# Altium footprint library CustomComponentsLibrary.PcbLib: 15 footprints
Each footprint in its own frame and in the unit in brackets; x right, y up, seen from the top. Pads: shape width x height; smd on the part's side, far side on the other; paste and mask are expansions set on the pad; w line width, h text height; cw(c..) or ccw(c..) is an arc to the next point about the centre after c.
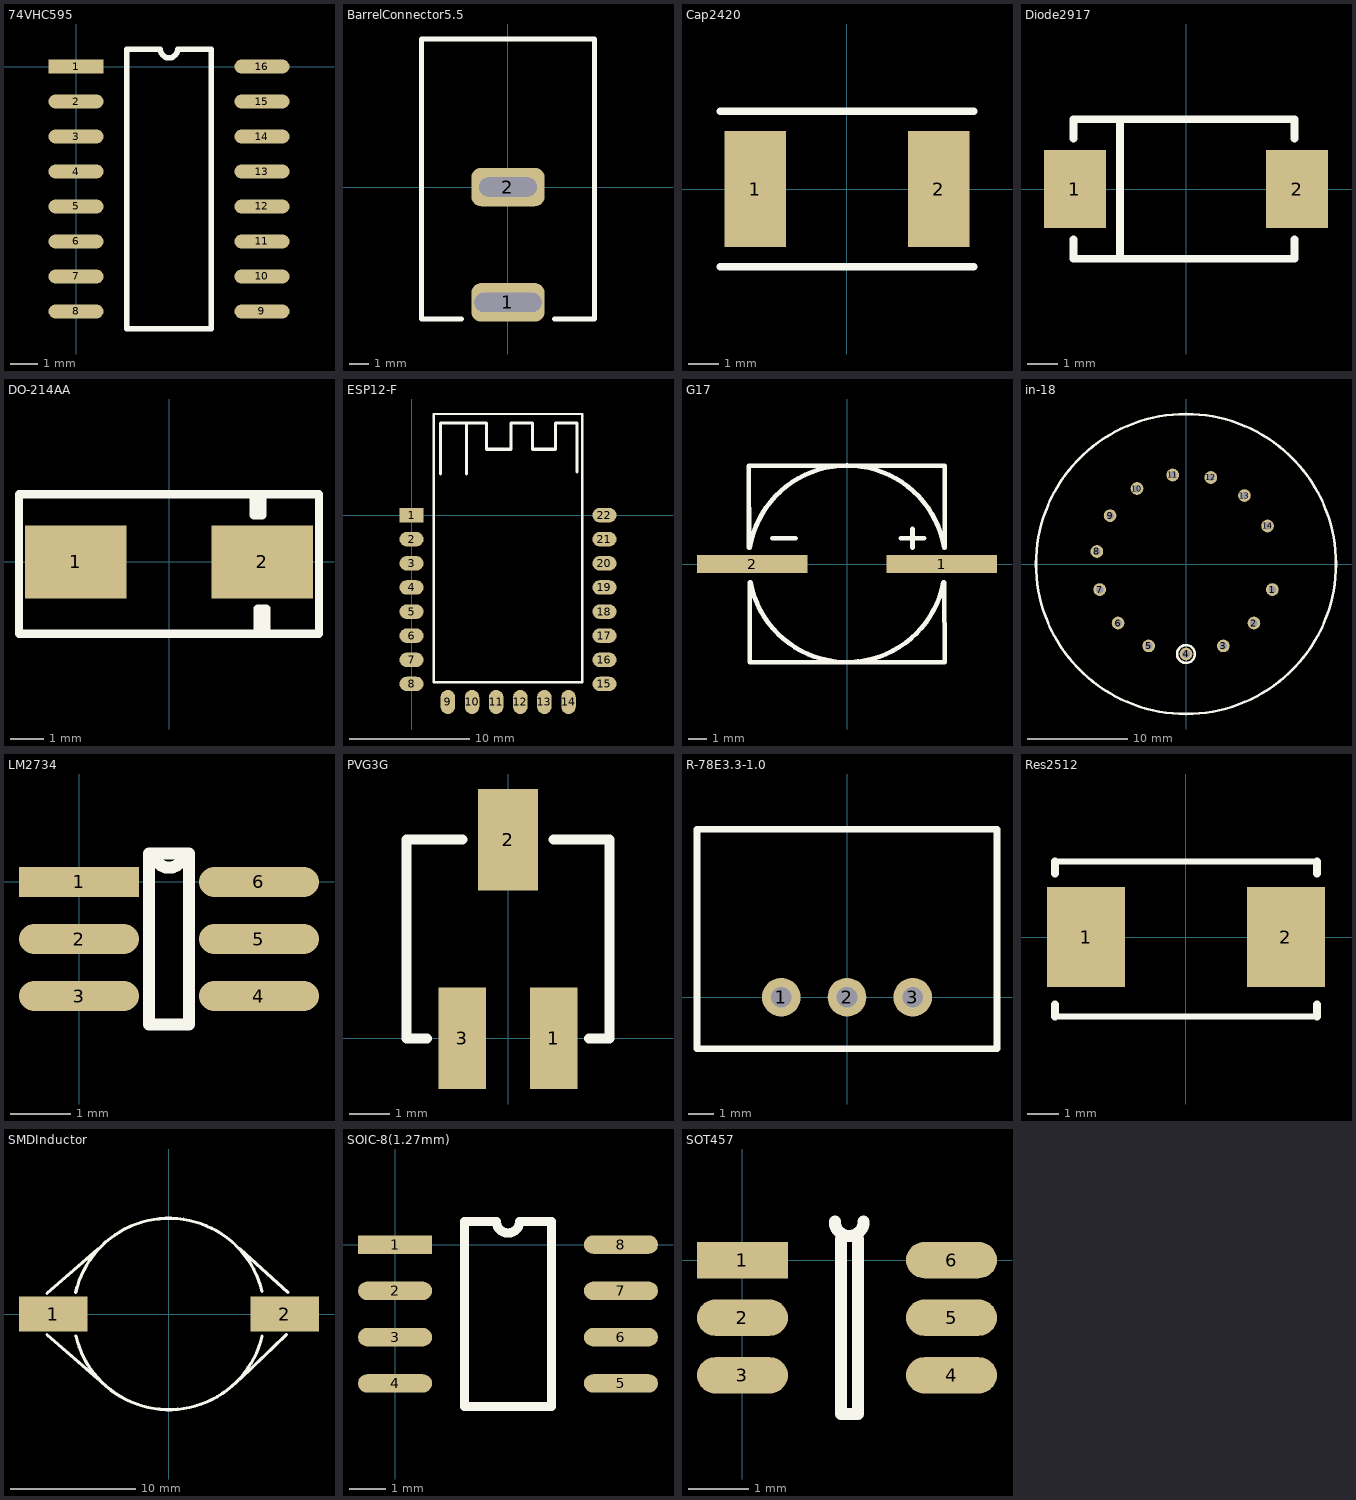
[diagram p0: the footprints below, top view; thin cyan lines are the x and y axes]

## 74VHC595 [mm]
pads (16):
  rect 2x0.5 smd: 1(0,0)
  oval 2x0.5 smd: 2(0,-1.27) 3(0,-2.54) 4(0,-3.81) 5(0,-5.08) 6(0,-6.35) 7(0,-7.62) 8(0,-8.89) 9(6.75,-8.89) 10(6.75,-7.62) 11(6.75,-6.35) 12(6.75,-5.08) 13(6.75,-3.81) 14(6.75,-2.54) 15(6.75,-1.27) 16(6.75,0)
Top Overlay:
  lines w0.2: 1.835,-9.525 1.835,0.635 3.057,0.635 ccw(c3.375,0.635) 3.692,0.635 4.915,0.635 4.915,-9.525 1.835,-9.525

## BarrelConnector5.5 [mm]
pads (2):
  rrect50% 3.81x2 hole 1 slot 3.5 at 0 deg: 1(0,-6)
  rrect50% 3.81x2 hole 1 slot 3 at 0 deg: 2(0,0)
Top Overlay:
  lines w0.254: -2.413,-6.858 -4.5,-6.858 -4.5,7.7 4.5,7.7 4.5,-6.858 2.413,-6.858

## Cap2420 [mm]
pads (2):
  rect 2x3.8 smd: 1(-3,0) 2(3,0)
Top Overlay:
  lines w0.254: -4.14,-2.54 4.14,-2.54 ; -4.14,2.54 4.14,2.54

## Diode2917 [mil]
pads (2):
  rect 80x100 smd: 1(-143.5,0) 2(143.5,0)
Top Overlay:
  lines w10: -145,-65 -145,-90 -85,-90 ; -145,65 -145,90 -85,90 ; 140,-65 140,-90 90,-90 -85,-90 ; 140,65 140,90 90,90 -85,90 ; -85,-90 -85,90

## DO-214AA [mil]
pads (2):
  rect 120x86 smd: 1(-110,0) 2(110,0)
Top Overlay:
  lines w10: 100,80 100,55 110,55 110,80 ; 105,-85 105,-55 115,-55 115,-85 ; -177,-85 -177,0 -177,80 177,80 177,-85 -177,-85

## ESP12-F [mm]
pads (22):
  rect 2x1.2 smd: 1(0,0)
  oval 2x1.2 smd: 2(0,-2) 3(0,-4) 4(0,-6) 5(0,-8) 6(0,-10) 7(0,-12) 8(0,-14) 15(16,-14) 16(16,-12) 17(16,-10) 18(16,-8) 19(16,-6) 20(16,-4) 21(16,-2) 22(16,0)
  oval 1.2x2 smd: 9(3.018,-15.492) 10(5.018,-15.492) 11(7.018,-15.492) 12(9.018,-15.492) 13(11.018,-15.492) 14(13.018,-15.492)
Top Overlay:
  lines w0.2: 10.922,8.382 14.165,8.382 14.165,-13.843 1.835,-13.843 1.835,8.382 4.918,8.382 11.083,8.382
  lines w0.254: 2.413,3.429 2.413,7.62 6.223,7.62 6.223,5.461 8.255,5.461 8.255,7.62 10.033,7.62 10.033,5.461 11.938,5.461 11.938,7.62 13.716,7.62 13.716,3.81 13.716,3.556 ; 4.572,3.429 4.572,7.62

## G17 [mm]
pads (2):
  rect 6x1 smd: 1(5.15,0) 2(-5.15,0)
Top Overlay:
  lines w0.254: -5.322,0.882 -5.334,5.334 0,5.334 5.314,5.334 5.314,0.883 ; -5.29,-1.006 -5.29,-5.271 -5.29,-5.334 0,-5.334 5.314,-5.334 5.291,-1.006 ; -5.28,0.882 cw(c0,0) 5.28,0.883 ; -5.24,-1.006 ccw(c0,0) 5.242,-0.996 ; -4.064,1.397 -2.794,1.397 ; 2.921,1.397 4.191,1.397 ; 3.556,0.889 3.556,1.905

## in-18 [mm]
pads (14):
  round 1.27 hole 0.75: 1(8.629,-2.556) 2(6.792,-5.904) 3(3.732,-8.19) 4(0,-9) 5(-3.732,-8.19) 6(-6.792,-5.904) 7(-8.629,-2.556) 8(-8.912,1.253) 9(-7.591,4.836) 10(-4.902,7.548) 11(-1.33,8.901) 12(2.481,8.651) 13(5.845,6.844) 14(8.157,3.804)
Top Overlay:
  circle w0.254: c0,-9 r0.889
  circle w0.254: c0,0 r15

## LM2734 [mm]
pads (6):
  rect 2x0.5 smd: 1(0,0)
  oval 2x0.5 smd: 2(0,-0.95) 3(0,-1.9) 4(3,-1.9) 5(3,-0.95) 6(3,0)
Top Overlay:
  lines w0.2: 1.165,-2.375 1.835,-2.375 1.835,0.475 1.262,0.475 ccw(c1.5,0.475) 1.737,0.475 1.165,0.475 1.165,-2.375

## PVG3G [mil]
pads (3):
  rect 47x100 smd: 1(45,0) 3(-45,0)
  rect 59x100 smd: 2(0,196)
Top Overlay:
  lines w10: -80,0 -100,0 -100,196 -45,196 ; 45,196 100,196 100,0 80,0

## R-78E3.3-1.0 [mm]
height 10.4
pads (3):
  round 1.5 hole 0.8: 1(-2.54,0) 2(0,0) 3(2.54,0)
Top Overlay:
  lines w0.254: -5.8,-2 5.8,-2 5.8,6.5 -5.8,6.5 -5.8,-2

## Res2512 [mm]
pads (2):
  rect 2.5x3.2 smd: 1(-3.2,0) 2(3.2,0)
Top Overlay:
  lines w0.2: -4.191,-2.54 4.191,-2.54 ; -4.191,2.413 4.191,2.413
  lines w0.254: -4.191,-2.54 -4.191,-2.159 ; -4.191,2.032 -4.191,2.413 ; 4.191,-2.54 4.191,-2.159 ; 4.191,2.032 4.191,2.413

## SMDInductor [mm]
pads (2):
  rect 5.5x2.79 smd: 1(-9.27,0) 2(9.27,0)
Top Overlay:
  lines w0.254: -9.779,-1.651 -5.715,-5.207 ; -9.779,1.651 -5.715,5.207 ; -7.473,1.744 cw(c0,0) 7.459,1.805 ; -7.466,-1.765 ccw(c0,0) 7.462,-1.781 ; 5.715,-5.207 9.398,-1.651 ; 5.715,5.207 9.525,1.744

## SOIC-8(1.27mm) [mil]
pads (8):
  rect 80x20 smd: 1(0,0)
  oval 80x20 smd: 2(0,-50) 3(0,-100) 4(0,-150) 5(244,-150) 6(244,-100) 7(244,-50) 8(244,0)
Top Overlay:
  lines w10: 75,-175 75,25 109.5,25 ccw(c122,25) 134.5,25 169,25 169,-175 75,-175

## SOT457 [mm]
pads (6):
  rect 1.5x0.6 smd: 1(0,0)
  oval 1.5x0.6 smd: 2(0,-0.95) 3(0,-1.9) 4(3.45,-1.9) 5(3.45,-0.95) 6(3.45,0)
Top Overlay:
  lines w0.2: 1.524,0.635 ccw(c1.762,0.635) 1.999,0.635 ; 1.625,0.348 1.625,-2.54 1.905,-2.54 1.905,0.348